# Altium schematic symbol library C1210C226K3PACTU.SchLib: 2 symbols
Pins are listed as number, name and electrical type; pins without a type are passive.

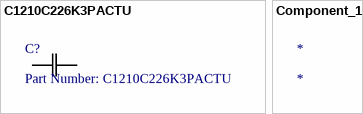
[diagram p0: symbols C1210C226K3PACTU to Component_1]

## C1210C226K3PACTU
designator C?, comment Part Number: C1210C226K3PACTU
No Description Available; Vendor: Kemet; Built_By: EMA_UL_Team; Type: DEV; Manufacturer_Part_Number: C1210C226K3PACTU; Copyright: Copyright (C) 2018 Accelerated Designs. All rights reserved; RefDes: RefDes; Value: Value
footprint C1210C
pins: 1, 2

## Component_1
designator *